# Altium integrated library Altera Cyclone III.IntLib: 225 symbols (part 18 of 48)
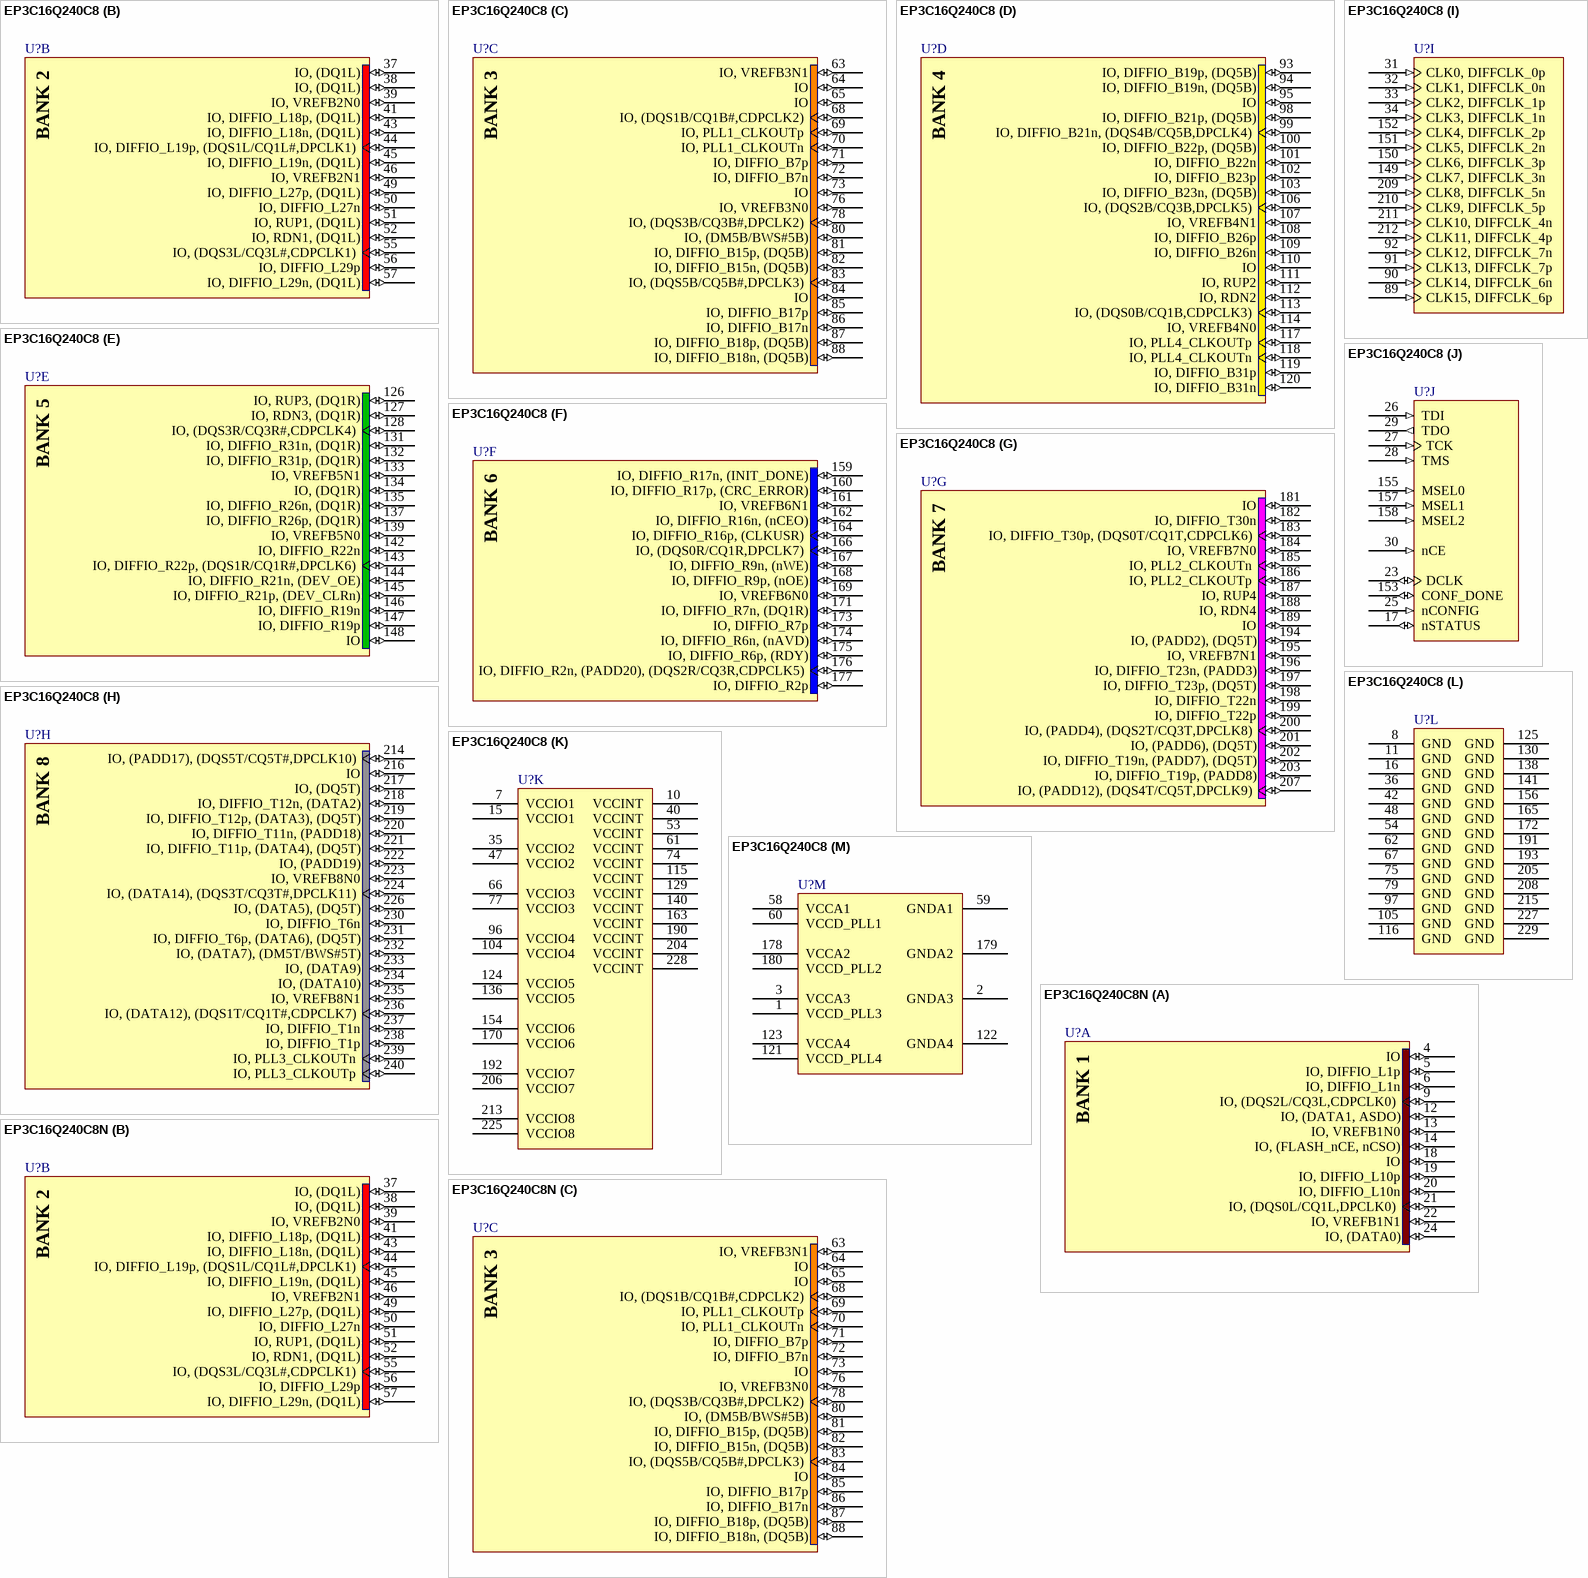
[diagram p511: symbols EP3C16Q240C8 to EP3C16Q240C8N]

## EP3C16Q240C8
designator U?
Cyclone III Family FPGA, 160 I/O Pins, 4 PLLs, 240-Pin PQFP, Speed Grade 8, Commercial Grade; Published: 26-Feb-2007; DatasheetVersion: ver2.0, May-2008; PackageVersion: ver15.1, May-2008; PackageReference: PQFP240; Publisher: Altium Limited; PackageDescription: 240-Pin Plastic Quad Flat Pack (PQFP240) - Wire Bond; Code_JEDEC: MS-029-GA; ComponentLink1Description: Manufacturer Link; ComponentLink1URL: http://www.altera.com/; ComponentLink2Description: Handbook (7.86MB); ComponentLink2URL: http://www.altera.com/literature/hb/cyc3/cyclone3_handbook.pdf; ComponentLink3Description: Packaging Specification; ComponentLink3URL: http://www.altera.com/literature/ds/dspkg.pdf
footprint PQFP240_N (Shrink QFP, 240-Leads, Body 32x32mm, Pitch 0.5mm, IPC Medium Density)
footprint PQFP240_L (Shrink QFP, 240-Leads, Body 32x32mm, Pitch 0.5mm, IPC High Density)
footprint PQFP240_M (Shrink QFP, 240-Leads, Body 32x32mm, Pitch 0.5mm, IPC Low Density)
3D model EP3C16-PQFP240 (240-Pin Plastic Quad Flat Pack (PQFP240) - Wire Bond)
signal-integrity model EP3C16_Q240 (Cyclone III)
part A pins: 4 IO (io), 5 IO, DIFFIO_L1p (io), 6 IO, DIFFIO_L1n (io), 9 IO, (DQS2L/CQ3L,CDPCLK0) (io), 12 IO, (DATA1, ASDO) (io), 13 IO, VREFB1N0 (io), 14 IO, (FLASH_nCE, nCSO) (io), 18 IO (io), 19 IO, DIFFIO_L10p (io), 20 IO, DIFFIO_L10n (io), 21 IO, (DQS0L/CQ1L,DPCLK0) (io), 22 IO, VREFB1N1 (io), 24 IO, (DATA0) (io)
part B pins: 37 IO, (DQ1L) (io), 38 IO, (DQ1L) (io), 39 IO, VREFB2N0 (io), 41 IO, DIFFIO_L18p, (DQ1L) (io), 43 IO, DIFFIO_L18n, (DQ1L) (io), 44 IO, DIFFIO_L19p, (DQS1L/CQ1L#,DPCLK1) (io), 45 IO, DIFFIO_L19n, (DQ1L) (io), 46 IO, VREFB2N1 (io), 49 IO, DIFFIO_L27p, (DQ1L) (io), 50 IO, DIFFIO_L27n (io), 51 IO, RUP1, (DQ1L) (io), 52 IO, RDN1, (DQ1L) (io), 55 IO, (DQS3L/CQ3L#,CDPCLK1) (io), 56 IO, DIFFIO_L29p (io), 57 IO, DIFFIO_L29n, (DQ1L) (io)
part C pins: 63 IO, VREFB3N1 (io), 64 IO (io), 65 IO (io), 68 IO, (DQS1B/CQ1B#,CDPCLK2) (io), 69 IO, PLL1_CLKOUTp (io), 70 IO, PLL1_CLKOUTn (io), 71 IO, DIFFIO_B7p (io), 72 IO, DIFFIO_B7n (io), 73 IO (io), 76 IO, VREFB3N0 (io), 78 IO, (DQS3B/CQ3B#,DPCLK2) (io), 80 IO, (DM5B/BWS#5B) (io), 81 IO, DIFFIO_B15p, (DQ5B) (io), 82 IO, DIFFIO_B15n, (DQ5B) (io), 83 IO, (DQS5B/CQ5B#,DPCLK3) (io), 84 IO (io), 85 IO, DIFFIO_B17p (io), 86 IO, DIFFIO_B17n (io), 87 IO, DIFFIO_B18p, (DQ5B) (io), 88 IO, DIFFIO_B18n, (DQ5B) (io)
part D pins: 93 IO, DIFFIO_B19p, (DQ5B) (io), 94 IO, DIFFIO_B19n, (DQ5B) (io), 95 IO (io), 98 IO, DIFFIO_B21p, (DQ5B) (io), 99 IO, DIFFIO_B21n, (DQS4B/CQ5B,DPCLK4) (io), 100 IO, DIFFIO_B22p, (DQ5B) (io), 101 IO, DIFFIO_B22n (io), 102 IO, DIFFIO_B23p (io), 103 IO, DIFFIO_B23n, (DQ5B) (io), 106 IO, (DQS2B/CQ3B,DPCLK5) (io), 107 IO, VREFB4N1 (io), 108 IO, DIFFIO_B26p (io), 109 IO, DIFFIO_B26n (io), 110 IO (io), 111 IO, RUP2 (io), 112 IO, RDN2 (io), 113 IO, (DQS0B/CQ1B,CDPCLK3) (io), 114 IO, VREFB4N0 (io), 117 IO, PLL4_CLKOUTp (io), 118 IO, PLL4_CLKOUTn (io), 119 IO, DIFFIO_B31p (io), 120 IO, DIFFIO_B31n (io)
part E pins: 126 IO, RUP3, (DQ1R) (io), 127 IO, RDN3, (DQ1R) (io), 128 IO, (DQS3R/CQ3R#,CDPCLK4) (io), 131 IO, DIFFIO_R31n, (DQ1R) (io), 132 IO, DIFFIO_R31p, (DQ1R) (io), 133 IO, VREFB5N1 (io), 134 IO, (DQ1R) (io), 135 IO, DIFFIO_R26n, (DQ1R) (io), 137 IO, DIFFIO_R26p, (DQ1R) (io), 139 IO, VREFB5N0 (io), 142 IO, DIFFIO_R22n (io), 143 IO, DIFFIO_R22p, (DQS1R/CQ1R#,DPCLK6) (io), 144 IO, DIFFIO_R21n, (DEV_OE) (io), 145 IO, DIFFIO_R21p, (DEV_CLRn) (io), 146 IO, DIFFIO_R19n (io), 147 IO, DIFFIO_R19p (io), 148 IO (io)
part F pins: 159 IO, DIFFIO_R17n, (INIT_DONE) (io), 160 IO, DIFFIO_R17p, (CRC_ERROR) (io), 161 IO, VREFB6N1 (io), 162 IO, DIFFIO_R16n, (nCEO) (io), 164 IO, DIFFIO_R16p, (CLKUSR) (io), 166 IO, (DQS0R/CQ1R,DPCLK7) (io), 167 IO, DIFFIO_R9n, (nWE) (io), 168 IO, DIFFIO_R9p, (nOE) (io), 169 IO, VREFB6N0 (io), 171 IO, DIFFIO_R7n, (DQ1R) (io), 173 IO, DIFFIO_R7p (io), 174 IO, DIFFIO_R6n, (nAVD) (io), 175 IO, DIFFIO_R6p, (RDY) (io), 176 IO, DIFFIO_R2n, (PADD20), (DQS2R/CQ3R,CDPCLK5) (io), 177 IO, DIFFIO_R2p (io)
part G pins: 181 IO (io), 182 IO, DIFFIO_T30n (io), 183 IO, DIFFIO_T30p, (DQS0T/CQ1T,CDPCLK6) (io), 184 IO, VREFB7N0 (io), 185 IO, PLL2_CLKOUTn (io), 186 IO, PLL2_CLKOUTp (io), 187 IO, RUP4 (io), 188 IO, RDN4 (io), 189 IO (io), 194 IO, (PADD2), (DQ5T) (io), 195 IO, VREFB7N1 (io), 196 IO, DIFFIO_T23n, (PADD3) (io), 197 IO, DIFFIO_T23p, (DQ5T) (io), 198 IO, DIFFIO_T22n (io), 199 IO, DIFFIO_T22p (io), 200 IO, (PADD4), (DQS2T/CQ3T,DPCLK8) (io), 201 IO, (PADD6), (DQ5T) (io), 202 IO, DIFFIO_T19n, (PADD7), (DQ5T) (io), 203 IO, DIFFIO_T19p, (PADD8) (io), 207 IO, (PADD12), (DQS4T/CQ5T,DPCLK9) (io)
part H pins: 214 IO, (PADD17), (DQS5T/CQ5T#,DPCLK10) (io), 216 IO (io), 217 IO, (DQ5T) (io), 218 IO, DIFFIO_T12n, (DATA2) (io), 219 IO, DIFFIO_T12p, (DATA3), (DQ5T) (io), 220 IO, DIFFIO_T11n, (PADD18) (io), 221 IO, DIFFIO_T11p, (DATA4), (DQ5T) (io), 222 IO, (PADD19) (io), 223 IO, VREFB8N0 (io), 224 IO, (DATA14), (DQS3T/CQ3T#,DPCLK11) (io), 226 IO, (DATA5), (DQ5T) (io), 230 IO, DIFFIO_T6n (io), 231 IO, DIFFIO_T6p, (DATA6), (DQ5T) (io), 232 IO, (DATA7), (DM5T/BWS#5T) (io), 233 IO, (DATA9) (io), 234 IO, (DATA10) (io), 235 IO, VREFB8N1 (io), 236 IO, (DATA12), (DQS1T/CQ1T#,CDPCLK7) (io), 237 IO, DIFFIO_T1n (io), 238 IO, DIFFIO_T1p (io), 239 IO, PLL3_CLKOUTn (io), 240 IO, PLL3_CLKOUTp (io)
part I pins: 31 CLK0, DIFFCLK_0p (in), 32 CLK1, DIFFCLK_0n (in), 33 CLK2, DIFFCLK_1p (in), 34 CLK3, DIFFCLK_1n (in), 89 CLK15, DIFFCLK_6p (in), 90 CLK14, DIFFCLK_6n (in), 91 CLK13, DIFFCLK_7p (in), 92 CLK12, DIFFCLK_7n (in), 149 CLK7, DIFFCLK_3n (in), 150 CLK6, DIFFCLK_3p (in), 151 CLK5, DIFFCLK_2n (in), 152 CLK4, DIFFCLK_2p (in), 209 CLK8, DIFFCLK_5n (in), 210 CLK9, DIFFCLK_5p (in), 211 CLK10, DIFFCLK_4n (in), 212 CLK11, DIFFCLK_4p (in)
part J pins: 17 nSTATUS (io), 23 DCLK (io), 25 nCONFIG (in), 26 TDI (in), 27 TCK (in), 28 TMS (in), 29 TDO (out), 30 nCE (in), 153 CONF_DONE (io), 155 MSEL0 (in), 157 MSEL1 (in), 158 MSEL2 (in)
part K pins: 7 VCCIO1 (power), 10 VCCINT (power), 15 VCCIO1 (power), 35 VCCIO2 (power), 40 VCCINT (power), 47 VCCIO2 (power), 53 VCCINT (power), 61 VCCINT (power), 66 VCCIO3 (power), 74 VCCINT (power), 77 VCCIO3 (power), 96 VCCIO4 (power), 104 VCCIO4 (power), 115 VCCINT (power), 124 VCCIO5 (power), 129 VCCINT (power), 136 VCCIO5 (power), 140 VCCINT (power), 154 VCCIO6 (power), 163 VCCINT (power), 170 VCCIO6 (power), 190 VCCINT (power), 192 VCCIO7 (power), 204 VCCINT (power), 206 VCCIO7 (power), 213 VCCIO8 (power), 225 VCCIO8 (power), 228 VCCINT (power)
part L pins: 8 GND (power), 11 GND (power), 16 GND (power), 36 GND (power), 42 GND (power), 48 GND (power), 54 GND (power), 62 GND (power), 67 GND (power), 75 GND (power), 79 GND (power), 97 GND (power), 105 GND (power), 116 GND (power), 125 GND (power), 130 GND (power), 138 GND (power), 141 GND (power), 156 GND (power), 165 GND (power), 172 GND (power), 191 GND (power), 193 GND (power), 205 GND (power), 208 GND (power), 215 GND (power), 227 GND (power), 229 GND (power)
part M pins: 1 VCCD_PLL3 (power), 2 GNDA3 (power), 3 VCCA3 (power), 58 VCCA1 (power), 59 GNDA1 (power), 60 VCCD_PLL1 (power), 121 VCCD_PLL4 (power), 122 GNDA4 (power), 123 VCCA4 (power), 178 VCCA2 (power), 179 GNDA2 (power), 180 VCCD_PLL2 (power)
part A text: BANK 1
part B text: BANK 2
part C text: BANK 3
part D text: BANK 4
part E text: BANK 5
part F text: BANK 6
part G text: BANK 7
part H text: BANK 8

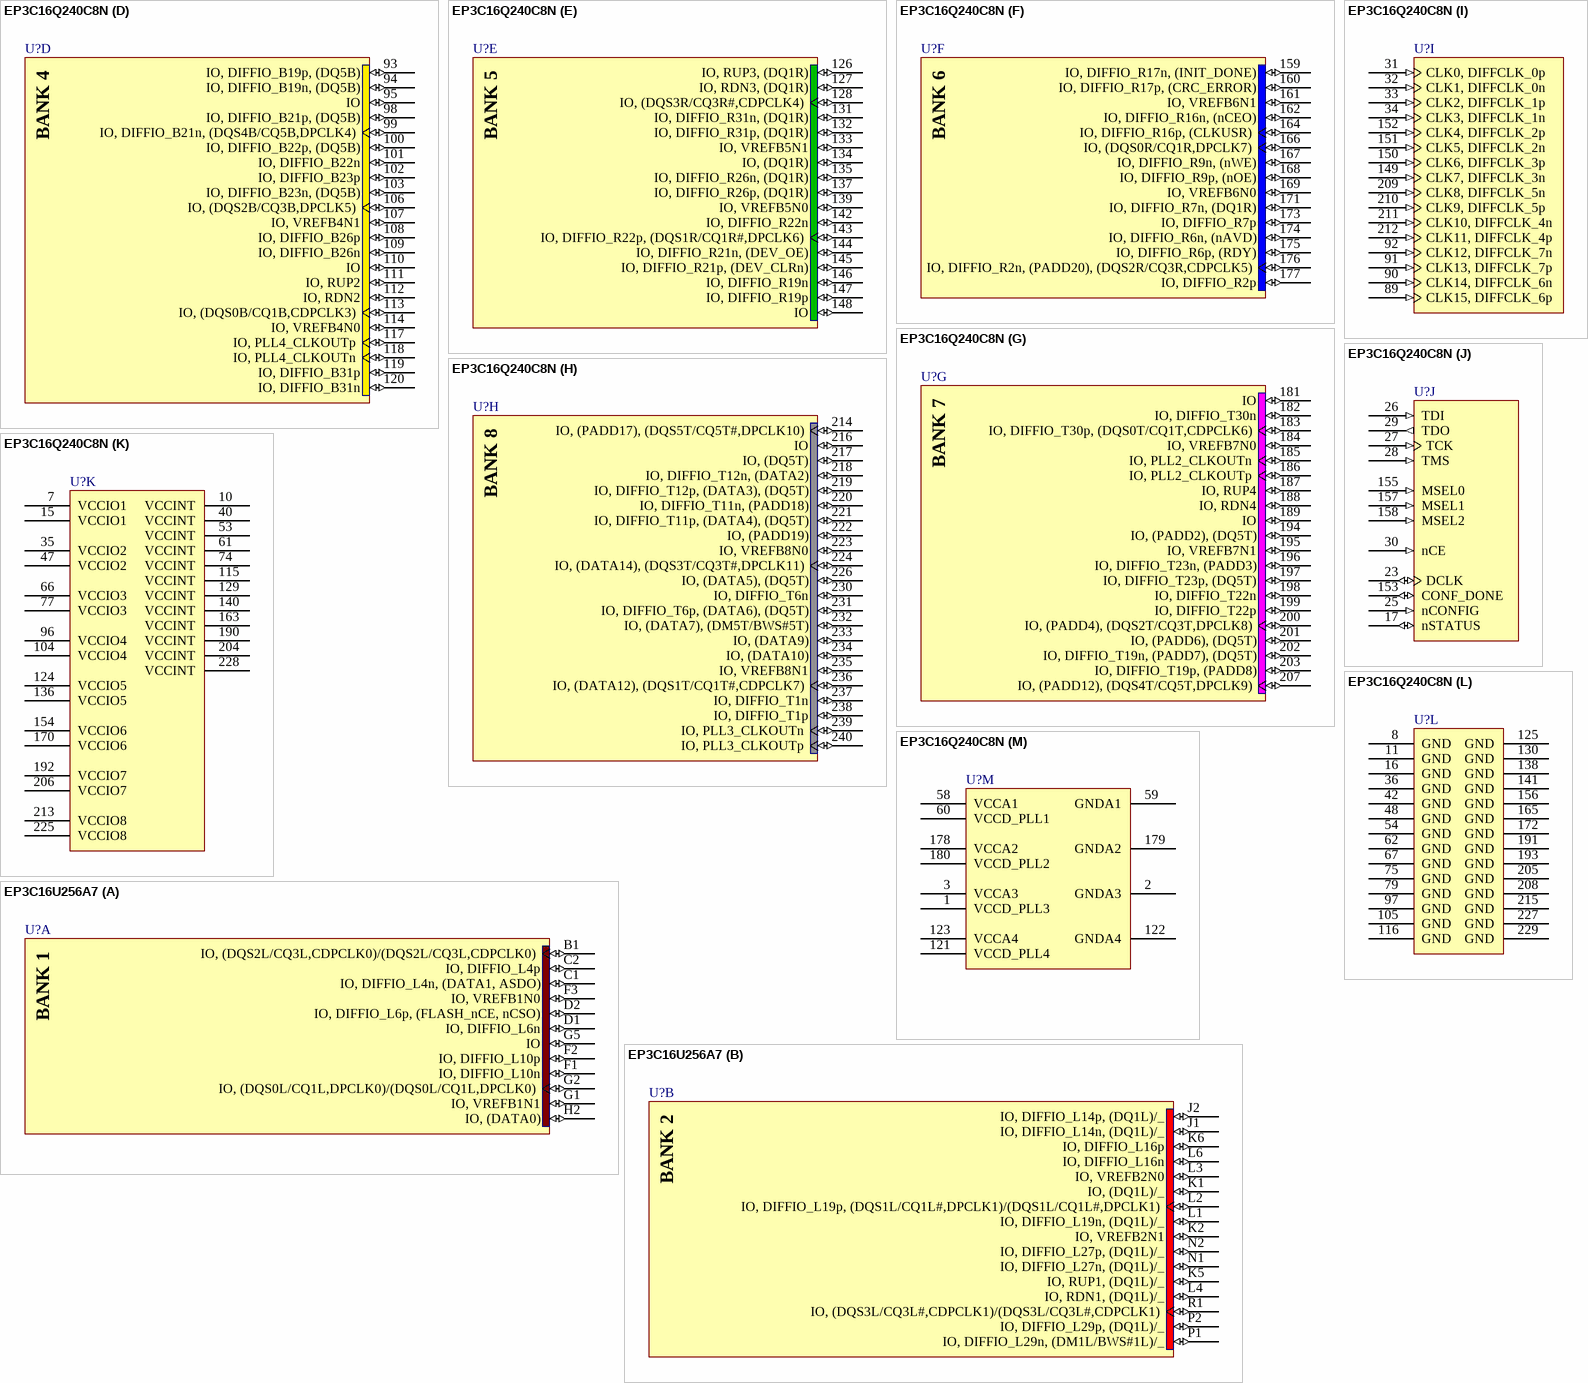
[diagram p98: symbols EP3C16Q240C8N to EP3C16U256A7]